# Altium footprint library CAP 225J 400V.PcbLib: 1 footprints
Each footprint in its own frame and in the unit in brackets; x right, y up, seen from the top. Pads: shape width x height; smd on the part's side, far side on the other; paste and mask are expansions set on the pad; w line width, h text height; cw(c..) or ccw(c..) is an arc to the next point about the centre after c.
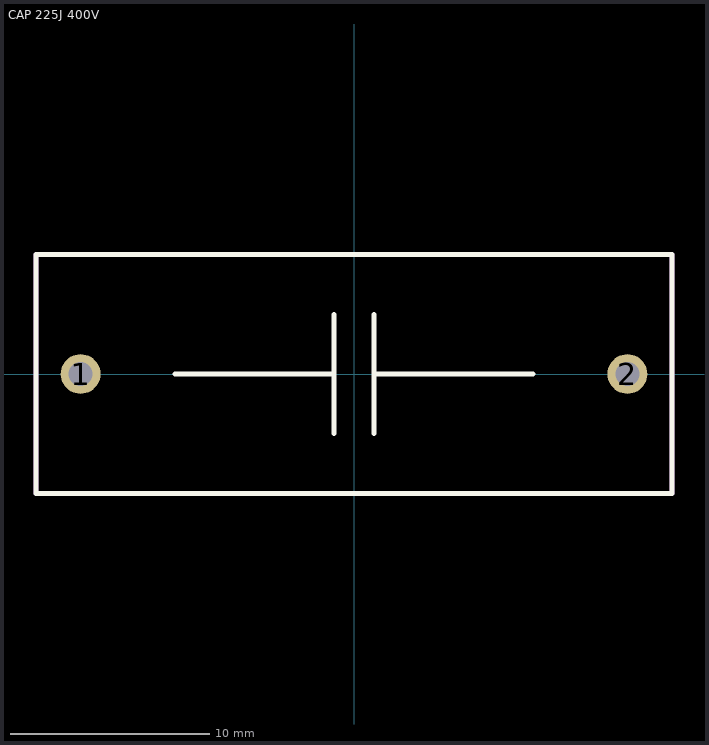
[diagram p0: the footprint, top view; thin cyan lines are the x and y axes]

## CAP 225J 400V [mm]
pads (2):
  round 2 hole 1.2: 1(-13.75,0) 2(13.75,0)
Top Overlay:
  lines w0.254: -9,0 -1,0 ; -1,-3 -1,0 ; -1,3 -1,0 ; 1,-3 1,-2 1,3 ; 1,0 9,0 ; -16,-6 -16,6 16,6 16,-6 -16,-6
Top Assembly:
  lines w0.254: -16,-6 16,-6 16,6 -16,6 -16,-6
  text "'.Designator'" at 0,0 h0.7
3D body "User Library-JFB02J105.STEP": height 26.5, standoff -2, extent -16,-6.25 16,6.25